# EAGLE library part 8*CE598 (library micro-philips)
8bit 8051 Microcontroller, CAN 2.0A Without ROM P80CE598FFB/P80CE598FHB With ROM P83CE598FFB/P83CE598FHB
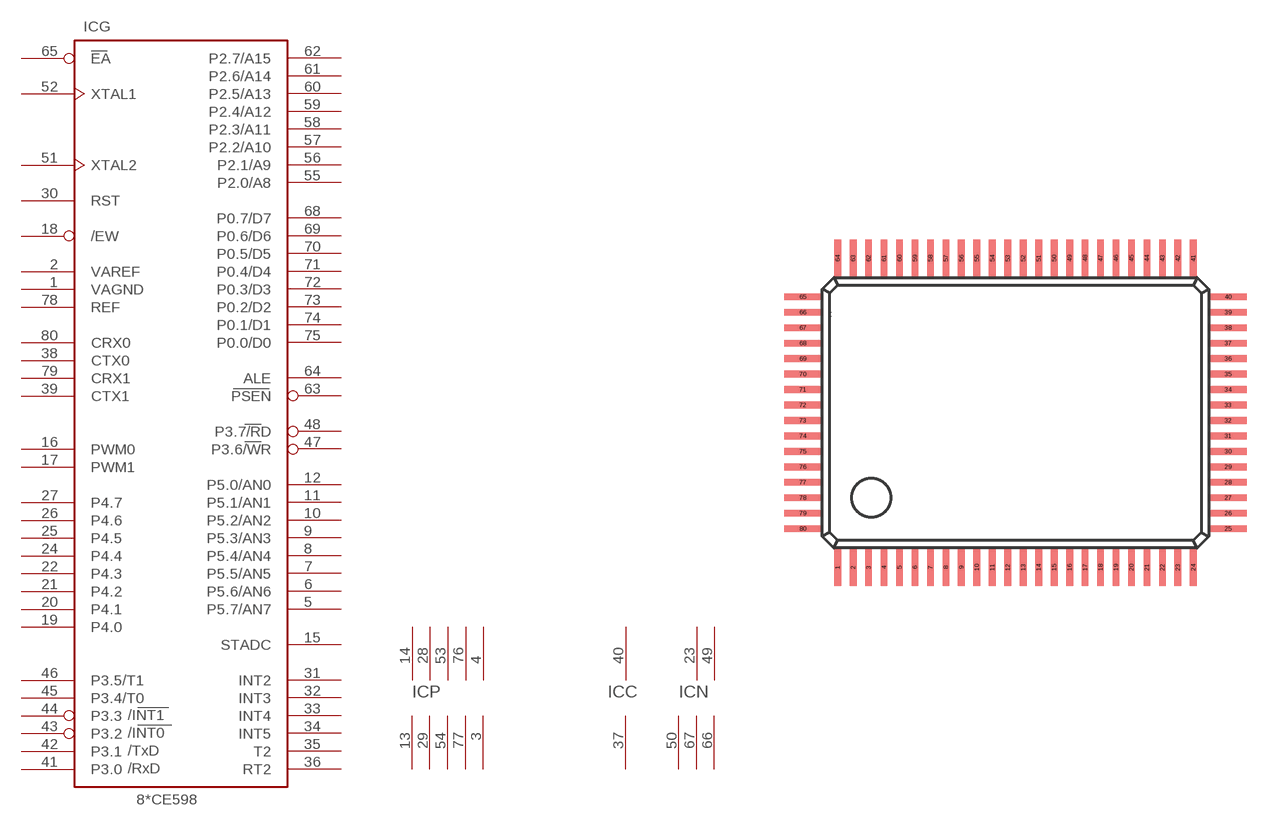
[diagram p22: symbol with the pads of QFP80; footprint QFP80]

Designator prefix IC; gates G=8XC598 P=PWR5 C=PWRC N=NC5

## 80CE598FP (OC_FARNELL: unknown; OC_NEWARK: unknown), 83CE598FP (OC_FARNELL: unknown; OC_NEWARK: unknown)  [QFP80]
1  G:VAGND
2  G:VAREF
3  P:GND  pwr
4  P:VCC  pwr
5  G:P5.7/AN7
6  G:P5.6/AN6
7  G:P5.5/AN5
8  G:P5.4/AN4
9  G:P5.3/AN3
10  G:P5.2/AN2
11  G:P5.1/AN1
12  G:P5.0/AN0
13  P:GND  pwr
14  P:VCC  pwr
15  G:STADC
16  G:PWM0
17  G:PWM1
18  G:/EW
19  G:P4.0
20  G:P4.1
21  G:P4.2
22  G:P4.3
23  N:NC  nc
24  G:P4.4
25  G:P4.5
26  G:P4.6
27  G:P4.7
28  P:VCC  pwr
29  P:GND  pwr
30  G:RST  in
31  G:INT2
32  G:INT3
33  G:INT4
34  G:INT5
35  G:T2
36  G:RT2
37  C:CGND  pwr
38  G:CTX0
39  G:CTX1
40  C:CVCC  pwr
41  G:P3.0
42  G:P3.1
43  G:P3.2
44  G:P3.3
45  G:P3.4/T0
46  G:P3.5/T1
47  G:P3.6/WR
48  G:P3.7/RD
49  N:NC  nc
50  N:NC  nc
51  G:XTAL2  in
52  G:XTAL1  in
53  P:VCC  pwr
54  P:GND  pwr
55  G:P2.0/A8
56  G:P2.1/A9
57  G:P2.2/A10
58  G:P2.3/A11
59  G:P2.4/A12
60  G:P2.5/A13
61  G:P2.6/A14
62  G:P2.7/A15
63  G:PSEN  out
64  G:ALE  out
65  G:EA  in
66  N:NC  nc
67  N:NC  nc
68  G:P0.7/D7
69  G:P0.6/D6
70  G:P0.5/D5
71  G:P0.4/D4
72  G:P0.3/D3
73  G:P0.2/D2
74  G:P0.1/D1
75  G:P0.0/D0
76  P:VCC  pwr
77  P:GND  pwr
78  G:REF
79  G:CRX1
80  G:CRX0

## Footprint QFP80 (pad centres in mm)
Quad Flat Pack
smd 0.35 x 1.9: 1 -8.8,-7.53; 2 -8,-7.53; 3 -7.2,-7.53; 4 -6.4,-7.53; 5 -5.6,-7.53; 6 -4.8,-7.53; 7 -4,-7.53; 8 -3.2,-7.53; 9 -2.4,-7.53; 10 -1.6,-7.53; 11 -0.8,-7.53; 12 0,-7.53; 13 0.8,-7.53; 14 1.6,-7.53; 15 2.4,-7.53; 16 3.2,-7.53; 17 4,-7.53; 18 4.8,-7.53; 19 5.6,-7.53; 20 6.4,-7.53; 21 7.2,-7.53; 22 8,-7.53; 23 8.8,-7.53; 24 9.6,-7.53; 41 9.6,8.47; 42 8.8,8.47; 43 8,8.47; 44 7.2,8.47; 45 6.4,8.47; 46 5.6,8.47; 47 4.8,8.47; 48 4,8.47; 49 3.2,8.47; 50 2.4,8.47; 51 1.6,8.47; 52 0.8,8.47; 53 0,8.47; 54 -0.8,8.47; 55 -1.6,8.47; 56 -2.4,8.47; 57 -3.2,8.47; 58 -4,8.47; 59 -4.8,8.47; 60 -5.6,8.47; 61 -6.4,8.47; 62 -7.2,8.47; 63 -8,8.47; 64 -8.8,8.47
smd 1.9 x 0.35: 25 11.4,-5.53; 26 11.4,-4.73; 27 11.4,-3.93; 28 11.4,-3.13; 29 11.4,-2.33; 30 11.4,-1.53; 31 11.4,-0.73; 32 11.4,0.07; 33 11.4,0.87; 34 11.4,1.67; 35 11.4,2.47; 36 11.4,3.27; 37 11.4,4.07; 38 11.4,4.87; 39 11.4,5.67; 40 11.4,6.47; 65 -10.6,6.47; 66 -10.6,5.67; 67 -10.6,4.87; 68 -10.6,4.07; 69 -10.6,3.27; 70 -10.6,2.47; 71 -10.6,1.67; 72 -10.6,0.87; 73 -10.6,0.07; 74 -10.6,-0.73; 75 -10.6,-1.53; 76 -10.6,-2.33; 77 -10.6,-3.13; 78 -10.6,-3.93; 79 -10.6,-4.73; 80 -10.6,-5.53